# Altium schematic symbol library B540C-13-F.SchLib: 1 symbol
Pins are listed as number, name and electrical type; pins without a type are passive.

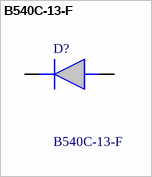
[diagram p0: symbol B540C-13-F]

## B540C-13-F
designator D?
Diodes Inc B540C-13-F, SMT Schottky Diode, 40V 5A, 2-Pin DO-214AB; Manufacturer_Name: Diodes Inc.; Geometry.Height: 2.5mm; Mouser Part Number: 621-B540C-F; Mouser Price/Stock: https://www.mouser.co.uk/ProductDetail/Diodes-Incorporated/B540C-13-F?qs=v2dnQLbuoRZXHN%2FK4ft5%252Bg%3D%3D; Manufacturer_Part_Number: B540C-13-F; Datasheet Link: https://componentsearchengine.com/Datasheets/2/B540C-13-F.pdf
footprint DIOM7959X250N
pins: 1 K, 2 A